# EAGLE library part STM32F030F4P6 (library DougsLab)
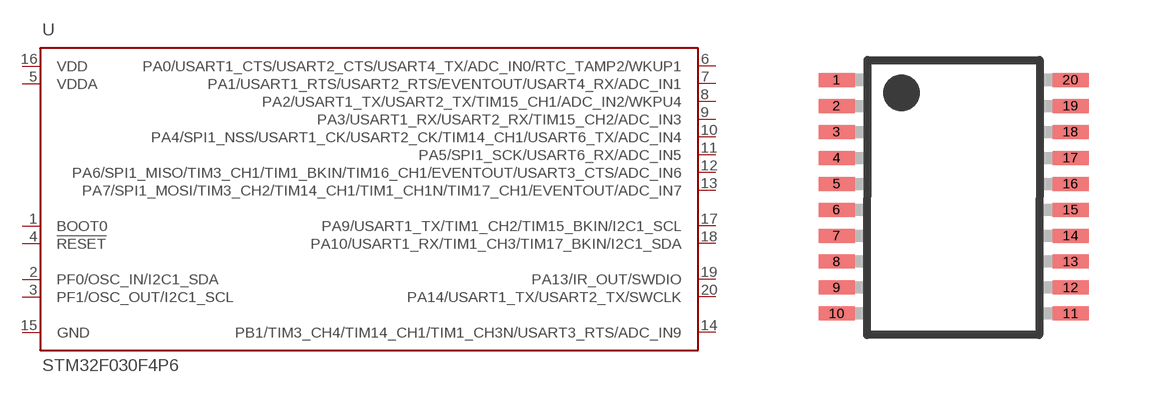
[diagram p3: symbol with the pads of TSSOP20; footprint TSSOP20]

Designator prefix U

## STM32F030F4P6  [TSSOP20]
1  BOOT0
2  PF0/OSC_IN/I2C1_SDA
3  PF1/OSC_OUT/I2C1_SCL
4  !RESET  in
5  VDDA  pwr
6  PA0/USART1_CTS/USART2_CTS/USART4_TX/ADC_IN0/RTC_TAMP2/WKUP1
7  PA1/USART1_RTS/USART2_RTS/EVENTOUT/USART4_RX/ADC_IN1
8  PA2/USART1_TX/USART2_TX/TIM15_CH1/ADC_IN2/WKPU4
9  PA3/USART1_RX/USART2_RX/TIM15_CH2/ADC_IN3
10  PA4/SPI1_NSS/USART1_CK/USART2_CK/TIM14_CH1/USART6_TX/ADC_IN4
11  PA5/SPI1_SCK/USART6_RX/ADC_IN5
12  PA6/SPI1_MISO/TIM3_CH1/TIM1_BKIN/TIM16_CH1/EVENTOUT/USART3_CTS/ADC_IN6
13  PA7/SPI1_MOSI/TIM3_CH2/TIM14_CH1/TIM1_CH1N/TIM17_CH1/EVENTOUT/ADC_IN7
14  PB1/TIM3_CH4/TIM14_CH1/TIM1_CH3N/USART3_RTS/ADC_IN9
15  GND  pwr
16  VDD  pwr
17  PA9/USART1_TX/TIM1_CH2/TIM15_BKIN/I2C1_SCL
18  PA10/USART1_RX/TIM1_CH3/TIM17_BKIN/I2C1_SDA
19  PA13/IR_OUT/SWDIO
20  PA14/USART1_TX/USART2_TX/SWCLK

## Footprint TSSOP20 (pad centres in mm)
plastic thin shrink small outline package; 14 leads; body width 4.4 mm SOT402-1 Source: http://www.nxp.com/documents/data_sheet/74ABT125.pdf
smd 0.9 x 0.35: 1 -2.925,4.49; 2 -2.925,3.84; 3 -2.925,3.19; 4 -2.925,2.54; 5 -2.925,1.89; 6 -2.925,1.24; 7 -2.925,0.59; 8 -2.922,-0.059; 9 -2.922,-0.709; 10 -2.922,-1.359; 11 2.928,-1.359; 12 2.928,-0.709; 13 2.928,-0.059; 14 2.925,0.59; 15 2.925,1.24; 16 2.925,1.89; 17 2.925,2.54; 18 2.925,3.19; 19 2.925,3.84; 20 2.925,4.49